# EAGLE library part DEVEBOX (library ali_modules)
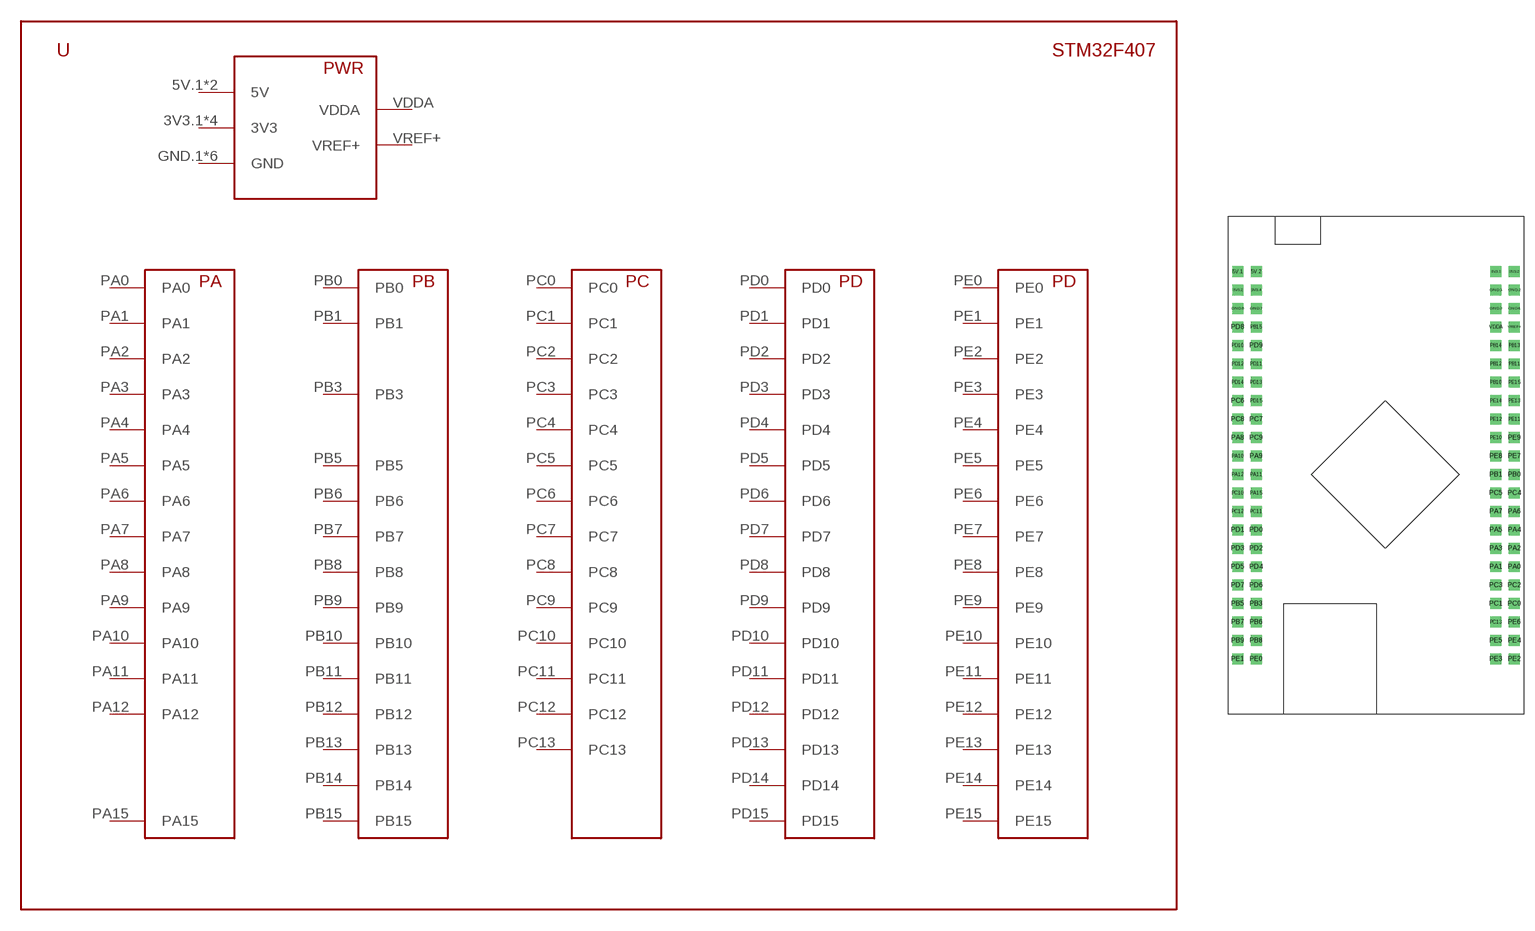
[diagram p0: symbol with the pads of DEVEBOX; footprint DEVEBOX]

Designator prefix -

## DEVEBOX  [DEVEBOX]
3V3.1  3V3
3V3.2  3V3
3V3.3  3V3
3V3.4  3V3
5V.1  5V
5V.2  5V
GND4.  GND
GND.1  GND
GND.2  GND
GND.3  GND
GND.6  GND
GND.7  GND
PA0  PA0
PA1  PA1
PA2  PA2
PA3  PA3
PA4  PA4
PA5  PA5
PA6  PA6
PA7  PA7
PA8  PA8
PA9  PA9
PA10  PA10
PA11  PA11
PA12  PA12
PA15  PA15
PB0  PB0
PB1  PB1
PB3  PB3
PB5  PB5
PB6  PB6
PB7  PB7
PB8  PB8
PB9  PB9
PB10  PB10
PB11  PB11
PB12  PB12
PB13  PB13
PB14  PB14
PB15  PB15
PC0  PC0
PC1  PC1
PC2  PC2
PC3  PC3
PC4  PC4
PC5  PC5
PC6  PC6
PC7  PC7
PC8  PC8
PC9  PC9
PC10  PC10
PC11  PC11
PC12  PC12
PC13  PC13
PD0  PD0
PD1  PD1
PD2  PD2
PD3  PD3
PD4  PD4
PD5  PD5
PD6  PD6
PD7  PD7
PD8  PD8
PD9  PD9
PD10  PD10
PD11  PD11
PD12  PD12
PD13  PD13
PD14  PD14
PD15  PD15
PE0  PE0
PE1  PE1
PE2  PE2
PE3  PE3
PE4  PE4
PE5  PE5
PE6  PE6
PE7  PE7
PE8  PE8
PE9  PE9
PE10  PE10
PE11  PE11
PE12  PE12
PE13  PE13
PE14  PE14
PE15  PE15
VDDA  VDDA
VREF+  VREF+

## Footprint DEVEBOX (pad centres in mm)
drill 1 square: 3V3.1 17.78,27.94; 3V3.2 20.32,27.94; 3V3.3 -17.78,25.4; 3V3.4 -15.24,25.4; 5V.1 -17.78,27.94; 5V.2 -15.24,27.94; GND4. 20.32,22.86; GND.1 17.78,25.4; GND.2 20.32,25.4; GND.3 17.78,22.86; GND.6 -17.78,22.86; GND.7 -15.24,22.86; PA0 20.32,-12.7; PA1 17.78,-12.7; PA2 20.32,-10.16; PA3 17.78,-10.16; PA4 20.32,-7.62; PA5 17.78,-7.62; PA6 20.32,-5.08; PA7 17.78,-5.08; PA8 -17.78,5.08; PA9 -15.24,2.54; PA10 -17.78,2.54; PA11 -15.24,0; PA12 -17.78,0; PA15 -15.24,-2.54; PB0 20.32,0; PB1 17.78,0; PB3 -15.24,-17.78; PB5 -17.78,-17.78; PB6 -15.24,-20.32; PB7 -17.78,-20.32; PB8 -15.24,-22.86; PB9 -17.78,-22.86; PB10 17.78,12.7; PB11 20.32,15.24; PB12 17.78,15.24; PB13 20.32,17.78; PB14 17.78,17.78; PB15 -15.24,20.32; PC0 20.32,-17.78; PC1 17.78,-17.78; PC2 20.32,-15.24; PC3 17.78,-15.24; PC4 20.32,-2.54; PC5 17.78,-2.54; PC6 -17.78,10.16; PC7 -15.24,7.62; PC8 -17.78,7.62; PC9 -15.24,5.08; PC10 -17.78,-2.54; PC11 -15.24,-5.08; PC12 -17.78,-5.08; PC13 17.78,-20.32; PD0 -15.24,-7.62; PD1 -17.78,-7.62; PD2 -15.24,-10.16; PD3 -17.78,-10.16; PD4 -15.24,-12.7; PD5 -17.78,-12.7; PD6 -15.24,-15.24; PD7 -17.78,-15.24; PD8 -17.78,20.32; PD9 -15.24,17.78; PD10 -17.78,17.78; PD11 -15.24,15.24; PD12 -17.78,15.24; PD13 -15.24,12.7; PD14 -17.78,12.7; PD15 -15.24,10.16; PE0 -15.24,-25.4; PE1 -17.78,-25.4; PE2 20.32,-25.4; PE3 17.78,-25.4; PE4 20.32,-22.86; PE5 17.78,-22.86; PE6 20.32,-20.32; PE7 20.32,2.54; PE8 17.78,2.54; PE9 20.32,5.08; PE10 17.78,5.08; PE11 20.32,7.62; PE12 17.78,7.62; PE13 20.32,10.16; PE14 17.78,10.16; PE15 20.32,12.7; VDDA 17.78,20.32; VREF+ 20.32,20.32